# Altium integrated library Xilinx PLD XC9500XL.IntLib: 85 symbols (part 5 of 5)
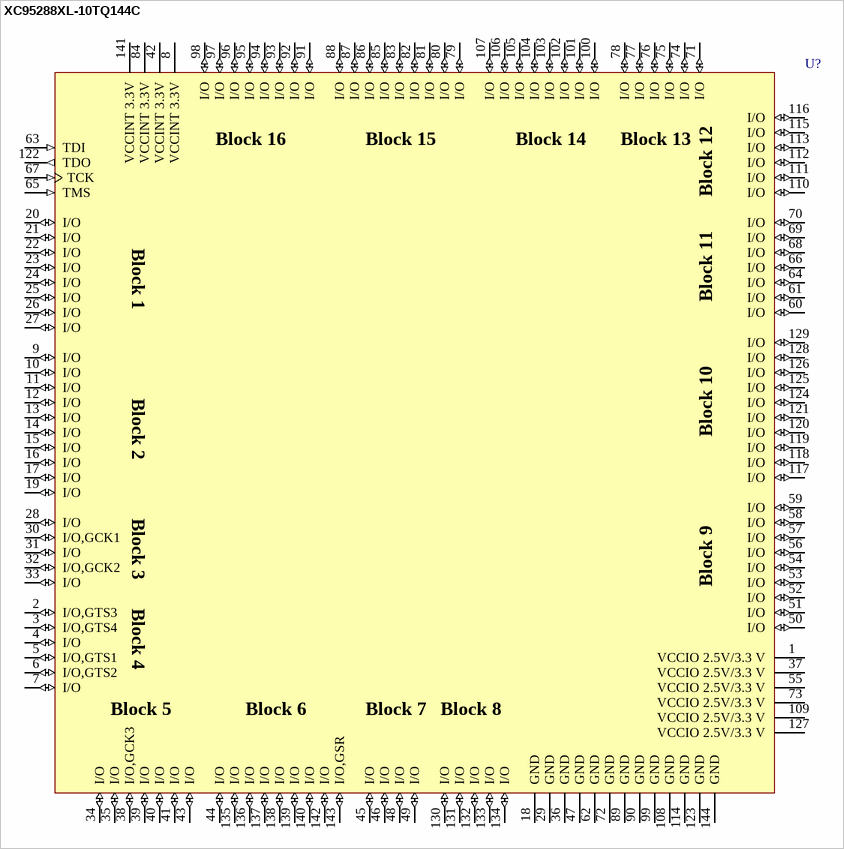
[diagram p37: symbol XC95288XL-10TQ144C]

## XC95288XL-10TQ144C
designator U?
FastFLASH XC900XL, 3.3V High-Performance CPLD with 288 Macrocells, 144-Pin TQFP, Commercial Grade; PackageDocument: ver1.1, Oct-2002; Published: 17-Jul-2002; DatasheetDocument: ver1.7, Aug-2003; PackageReference: TQ144; Publisher: Altium Limited; Code_JEDEC: MS-026-BFB; Code_IPC: SQFP20X20-144
footprint TQ144 (144-Pin Thin Quad Flat Pack (TQ144))
3D model XC95288XL-TQ144 (144-Pin Thin Quad Flat Pack (TQ144))
signal-integrity model XC95288XL_TQ144 (XC9500XL)
pins: 1 VCCIO 2.5V/3.3 V (power), 2 I/O,GTS3 (io), 3 I/O,GTS4 (io), 4 I/O (io), 5 I/O,GTS1 (io), 6 I/O,GTS2 (io), 7 I/O (io), 8 VCCINT 3.3V (power), 9 I/O (io), 10 I/O (io), 11 I/O (io), 12 I/O (io), 13 I/O (io), 14 I/O (io), 15 I/O (io), 16 I/O (io), 17 I/O (io), 18 GND (power), 19 I/O (io), 20 I/O (io), 21 I/O (io), 22 I/O (io), 23 I/O (io), 24 I/O (io), 25 I/O (io), 26 I/O (io), 27 I/O (io), 28 I/O (io), 29 GND (power), 30 I/O,GCK1 (io), 31 I/O (io), 32 I/O,GCK2 (io), 33 I/O (io), 34 I/O (io), 35 I/O (io), 36 GND (power), 37 VCCIO 2.5V/3.3 V (power), 38 I/O,GCK3 (io), 39 I/O (io), 40 I/O (io), 41 I/O (io), 42 VCCINT 3.3V (power), 43 I/O (io), 44 I/O (io), 45 I/O (io), 46 I/O (io), 47 GND (power), 48 I/O (io), 49 I/O (io), 50 I/O (io), 51 I/O (io), 52 I/O (io), 53 I/O (io), 54 I/O (io), 55 VCCIO 2.5V/3.3 V (power), 56 I/O (io), 57 I/O (io), 58 I/O (io), 59 I/O (io), 60 I/O (io), 61 I/O (io), 62 GND (power), 63 TDI (in), 64 I/O (io), 65 TMS (in), 66 I/O (io), 67 TCK (in), 68 I/O (io), 69 I/O (io), 70 I/O (io), 71 I/O (io), 72 GND (power), 73 VCCIO 2.5V/3.3 V (power), 74 I/O (io), 75 I/O (io), 76 I/O (io), 77 I/O (io), 78 I/O (io), 79 I/O (io), 80 I/O (io), 81 I/O (io), 82 I/O (io), 83 I/O (io), 84 VCCINT 3.3V (power), 85 I/O (io), 86 I/O (io), 87 I/O (io), 88 I/O (io), 89 GND (power), 90 GND (power), 91 I/O (io), 92 I/O (io), 93 I/O (io), 94 I/O (io), 95 I/O (io), 96 I/O (io), 97 I/O (io), 98 I/O (io), 99 GND (power), 100 I/O (io), 101 I/O (io), 102 I/O (io), 103 I/O (io), 104 I/O (io), 105 I/O (io), 106 I/O (io), 107 I/O (io), 108 GND (power), 109 VCCIO 2.5V/3.3 V (power), 110 I/O (io), 111 I/O (io), 112 I/O (io), 113 I/O (io), 114 GND (power), 115 I/O (io), 116 I/O (io), 117 I/O (io), 118 I/O (io), 119 I/O (io), 120 I/O (io), 121 I/O (io), 122 TDO (out), 123 GND (power), 124 I/O (io), 125 I/O (io), 126 I/O (io), 127 VCCIO 2.5V/3.3 V (power), 128 I/O (io), 129 I/O (io), 130 I/O (io), 131 I/O (io), 132 I/O (io), 133 I/O (io), 134 I/O (io), 135 I/O (io), 136 I/O (io), 137 I/O (io), 138 I/O (io), 139 I/O (io), 140 I/O (io), 141 VCCINT 3.3V (power), 142 I/O (io), 143 I/O,GSR (io), 144 GND (power)
text: Block 16; Block 15; Block 14; Block 13; Block 12; Block 1; Block 11; Block 2; Block 10; Block 3; Block 9; Block 4; Block 5; Block 6; Block 7; Block 8

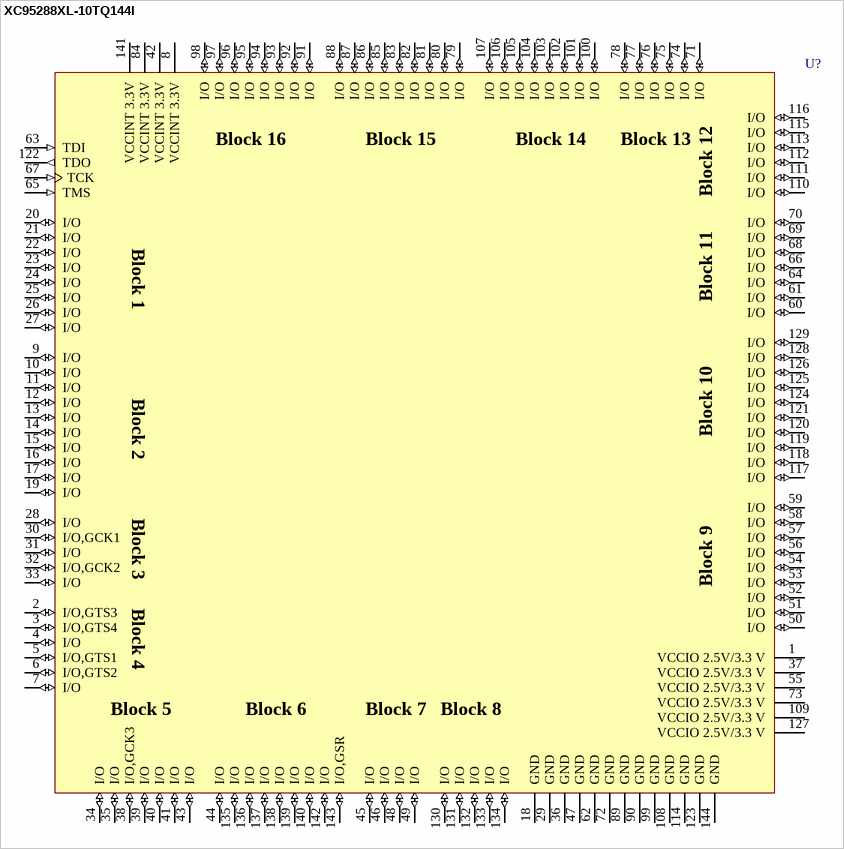
[diagram p33: symbol XC95288XL-10TQ144I]

## XC95288XL-10TQ144I
designator U?
FastFLASH XC900XL, 3.3V High-Performance CPLD with 288 Macrocells, 144-Pin TQFP, Industrial Grade; PackageDocument: ver1.1, Oct-2002; Published: 17-Jul-2002; DatasheetDocument: ver1.7, Aug-2003; PackageReference: TQ144; Publisher: Altium Limited; Code_JEDEC: MS-026-BFB; Code_IPC: SQFP20X20-144
footprint TQ144 (144-Pin Thin Quad Flat Pack (TQ144))
3D model XC95288XL-TQ144 (144-Pin Thin Quad Flat Pack (TQ144))
signal-integrity model XC95288XL_TQ144 (XC9500XL)
pins: 1 VCCIO 2.5V/3.3 V (power), 2 I/O,GTS3 (io), 3 I/O,GTS4 (io), 4 I/O (io), 5 I/O,GTS1 (io), 6 I/O,GTS2 (io), 7 I/O (io), 8 VCCINT 3.3V (power), 9 I/O (io), 10 I/O (io), 11 I/O (io), 12 I/O (io), 13 I/O (io), 14 I/O (io), 15 I/O (io), 16 I/O (io), 17 I/O (io), 18 GND (power), 19 I/O (io), 20 I/O (io), 21 I/O (io), 22 I/O (io), 23 I/O (io), 24 I/O (io), 25 I/O (io), 26 I/O (io), 27 I/O (io), 28 I/O (io), 29 GND (power), 30 I/O,GCK1 (io), 31 I/O (io), 32 I/O,GCK2 (io), 33 I/O (io), 34 I/O (io), 35 I/O (io), 36 GND (power), 37 VCCIO 2.5V/3.3 V (power), 38 I/O,GCK3 (io), 39 I/O (io), 40 I/O (io), 41 I/O (io), 42 VCCINT 3.3V (power), 43 I/O (io), 44 I/O (io), 45 I/O (io), 46 I/O (io), 47 GND (power), 48 I/O (io), 49 I/O (io), 50 I/O (io), 51 I/O (io), 52 I/O (io), 53 I/O (io), 54 I/O (io), 55 VCCIO 2.5V/3.3 V (power), 56 I/O (io), 57 I/O (io), 58 I/O (io), 59 I/O (io), 60 I/O (io), 61 I/O (io), 62 GND (power), 63 TDI (in), 64 I/O (io), 65 TMS (in), 66 I/O (io), 67 TCK (in), 68 I/O (io), 69 I/O (io), 70 I/O (io), 71 I/O (io), 72 GND (power), 73 VCCIO 2.5V/3.3 V (power), 74 I/O (io), 75 I/O (io), 76 I/O (io), 77 I/O (io), 78 I/O (io), 79 I/O (io), 80 I/O (io), 81 I/O (io), 82 I/O (io), 83 I/O (io), 84 VCCINT 3.3V (power), 85 I/O (io), 86 I/O (io), 87 I/O (io), 88 I/O (io), 89 GND (power), 90 GND (power), 91 I/O (io), 92 I/O (io), 93 I/O (io), 94 I/O (io), 95 I/O (io), 96 I/O (io), 97 I/O (io), 98 I/O (io), 99 GND (power), 100 I/O (io), 101 I/O (io), 102 I/O (io), 103 I/O (io), 104 I/O (io), 105 I/O (io), 106 I/O (io), 107 I/O (io), 108 GND (power), 109 VCCIO 2.5V/3.3 V (power), 110 I/O (io), 111 I/O (io), 112 I/O (io), 113 I/O (io), 114 GND (power), 115 I/O (io), 116 I/O (io), 117 I/O (io), 118 I/O (io), 119 I/O (io), 120 I/O (io), 121 I/O (io), 122 TDO (out), 123 GND (power), 124 I/O (io), 125 I/O (io), 126 I/O (io), 127 VCCIO 2.5V/3.3 V (power), 128 I/O (io), 129 I/O (io), 130 I/O (io), 131 I/O (io), 132 I/O (io), 133 I/O (io), 134 I/O (io), 135 I/O (io), 136 I/O (io), 137 I/O (io), 138 I/O (io), 139 I/O (io), 140 I/O (io), 141 VCCINT 3.3V (power), 142 I/O (io), 143 I/O,GSR (io), 144 GND (power)
text: Block 16; Block 15; Block 14; Block 13; Block 12; Block 1; Block 11; Block 2; Block 10; Block 3; Block 9; Block 4; Block 5; Block 6; Block 7; Block 8